# EAGLE library part SKRHA*010 (library Domino)
4-direction Type Switch with Center-push Function (Surface Mount) SKRH Series
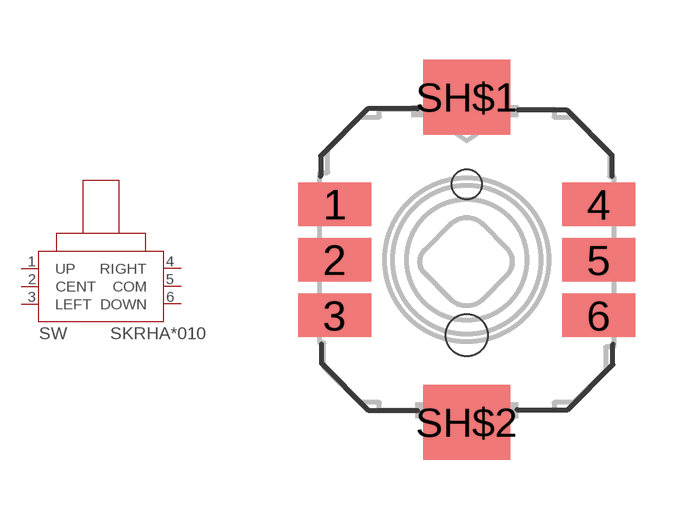
[diagram p49: symbol with the pads of SKRH; footprint SKRH]

Designator prefix SW

## SKRHABE010  [SKRH]
1  UP  pas
2  CENT  pas
3  LEFT  pas
4  RIGHT  pas
5  COM  pas
6  DOWN  pas

## Footprint SKRH (pad centres in mm)
4-direction Type Switch with Center-push Function (Surface Mount) SKRH Series
smd 1.85 x 1.1: 1 -3.325,1.4; 2 -3.325,0; 3 -3.325,-1.4; 4 3.325,1.4; 5 3.325,0; 6 3.325,-1.4
smd 2.2 x 1.9: SH$1 0,4.1; SH$2 0,-4.1
hole 0.75 at 0,1.9
hole 1.05 at 0,-1.9